# EAGLE library part M95M01-DWMN3TP/K (library my-STMicroelectronics)
EEPROM Auto 1024Kb SPI bus EEPROM
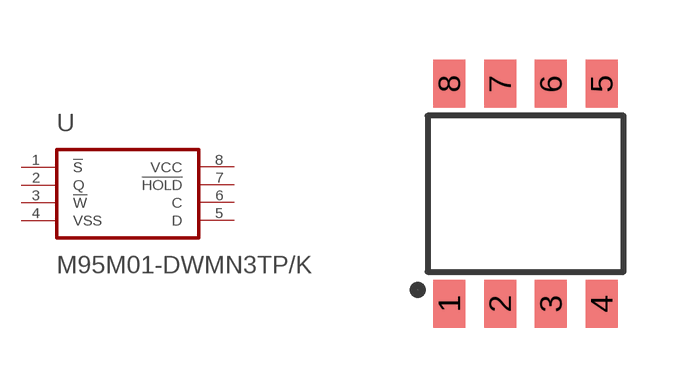
[diagram p1: symbol with the pads of SO8; footprint SO8]

Designator prefix -

## M95M01-DWMN3TP/K  [SO8]
1  !S
2  Q
3  !W
4  VSS
5  D
6  C
7  !HOLD
8  VCC

## Footprint SO8 (pad centres in mm)
smd 0.8 x 1.2: 1 -1.905,-2.75; 2 -0.635,-2.75; 3 0.635,-2.75; 4 1.905,-2.75; 5 1.905,2.75; 6 0.635,2.75; 7 -0.635,2.75; 8 -1.905,2.75